# EAGLE library part ADS7885SDBVT (library Lib2)
10-/8-Bit, 1.25-MSPS, MICRO-POWER, MINIATURE SAR ANALOG-TO-DIGITAL CONVERTERS Source: Datasheet <http://www.ti.com/lit/gpn/ads7885>
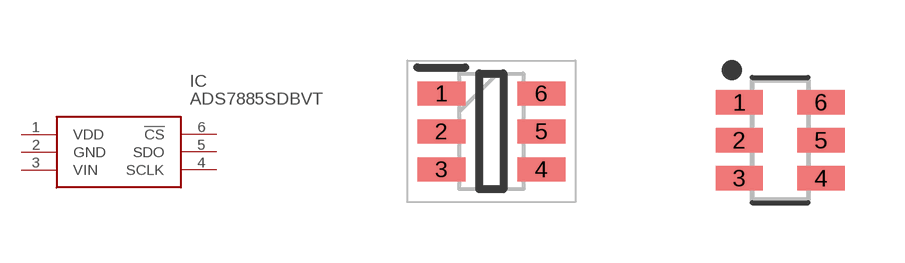
[diagram p0: symbol with the pads of SOT95P280X145-6N; footprints SOT95P280X145-6N, SOT95P240X110-6N]

Designator prefix IC

## ADS7885SDBVT (DESCRIPTION: 10-/8-Bit, 1.25-MSPS, MICRO-POWER, MINIATURE SAR ANALOG-TO-DIGITAL CONVERTERS; HEIGHT: 1.45mm; MANUFACTURER_NAME: Texas Instruments; MANUFACTURER_PART_NUMBER: ADS7885SDBVT; MOUSER_PART_NUMBER: 595-ADS7885SDBVT; MOUSER_PRICE-STOCK: https://www.mouser.co.uk/ProductDetail/Texas-Instruments/ADS7885SDBVT/?qs=fbOd4Cmkm1tWL%2FO011PB7Q%3D%3D)  [SOT95P280X145-6N]
1  VDD
2  GND
3  VIN
4  SCLK
5  SDO
6  !CS

## ADS7885SDBVTWITH3D  [SOT95P240X110-6N]

## Footprint SOT95P280X145-6N (pad centres in mm)
BDV-
smd 1.2 x 0.6: 1 -1.25,0.95; 2 -1.25,0; 3 -1.25,-0.95; 4 1.25,-0.95; 5 1.25,0; 6 1.25,0.95

## Footprint SOT95P240X110-6N (pad centres in mm)
6-SOT23, 0.95 mm pitch, 2.40 mm span, 2.90 X 1.30 X 1.10 mm body 6-pin SOT23 package with 0.95 mm pitch, 2.40 mm span with body size 2.90 X 1.30 X 1.10 mm
smd 1.182 x 0.612: 1 -1.025,0.95; 2 -1.025,0; 3 -1.025,-0.95; 4 1.025,-0.95; 5 1.025,0; 6 1.025,0.95